# Altium schematic symbol library RES_0805.SchLib: 1 symbol
Pins are listed as number, name and electrical type; pins without a type are passive.

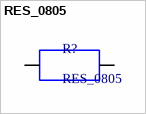
[diagram p0: symbol RES_0805]

## RES_0805
designator R?
Resistor SMD 0805 Generic; Manufacturer: YAGEO; Manufacturer Part Number: PE0805FRF470R02L; Tolerance: 1%; Resistance: 20 mOhm; LCSC Part Number: C858594
pins: 7, 8